# EAGLE library part DG411 (library 00shaunc)
Symbol(s) and footprint for the Intersil DG411/412/413 Quad SPST CMOS analog switches. Farnell #: 9663843 (DG411DYZ).
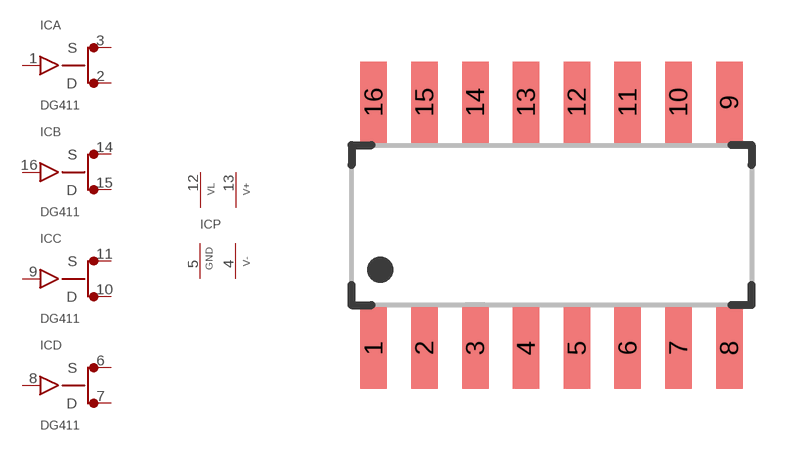
[diagram p3: symbol with the pads of SO16; footprint SO16]

Designator prefix IC; gates A=ANALOG-SWITCH B=ANALOG-SWITCH C=ANALOG-SWITCH D=ANALOG-SWITCH P=ANALOG-SWITCH-SUPPLY

## DG411DY  [SO16]
1  A:IN  in
2  A:D
3  A:S
4  P:V-  pwr
5  P:GND  pwr
6  D:S
7  D:D
8  D:IN  in
9  C:IN  in
10  C:D
11  C:S
12  P:VL  in
13  P:V+  pwr
14  B:S
15  B:D
16  B:IN  in

## Footprint SO16 (pad centres in mm)
Small Outline Package .150 SIOC Source: http://www.maxim-ic.com/package_drawings/21-0041B.pdf
smd 0.66 x 2.032: 1 -4.445,-3.073; 2 -3.175,-3.073; 3 -1.905,-3.073; 4 -0.635,-3.073; 5 0.635,-3.073; 6 1.905,-3.073; 7 3.175,-3.073; 8 4.445,-3.073; 9 4.445,3.073; 10 3.175,3.073; 11 1.905,3.073; 12 0.635,3.073; 13 -0.635,3.073; 14 -1.905,3.073; 15 -3.175,3.073; 16 -4.445,3.073